# EAGLE library part DAC-TLV1572 (library eagleLib v2)
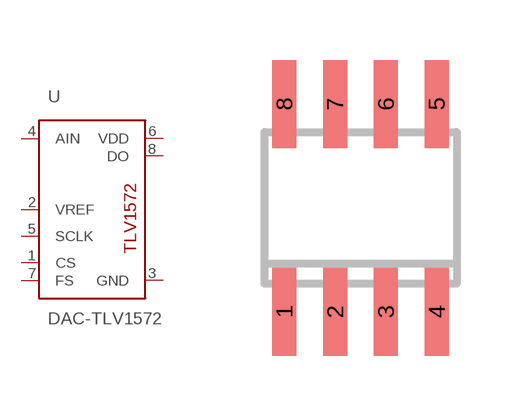
[diagram p18: symbol with the pads of SO08; footprint SO08]

Designator prefix -

## DAC-TLV1572-S  [SO08]
1  CS
2  VREF
3  GND
4  AIN
5  SCLK
6  VDD
7  FS
8  DO

## Footprint SO08 (pad centres in mm)
SMALL OUTLINE INTEGRATED CIRCUIT body 3.9 mm/JEDEC MS-012AA
smd 0.6 x 2.2: 1 -1.905,-2.6; 2 -0.635,-2.6; 3 0.635,-2.6; 4 1.905,-2.6; 5 1.905,2.6; 6 0.635,2.6; 7 -0.635,2.6; 8 -1.905,2.6